# Altium footprint library CC26xx_7x7_Diff.PcbLib: 14 footprints
Each footprint in its own frame and in the unit in brackets; x right, y up, seen from the top. Pads: shape width x height; smd on the part's side, far side on the other; paste and mask are expansions set on the pad; w line width, h text height; cw(c..) or ccw(c..) is an arc to the next point about the centre after c.
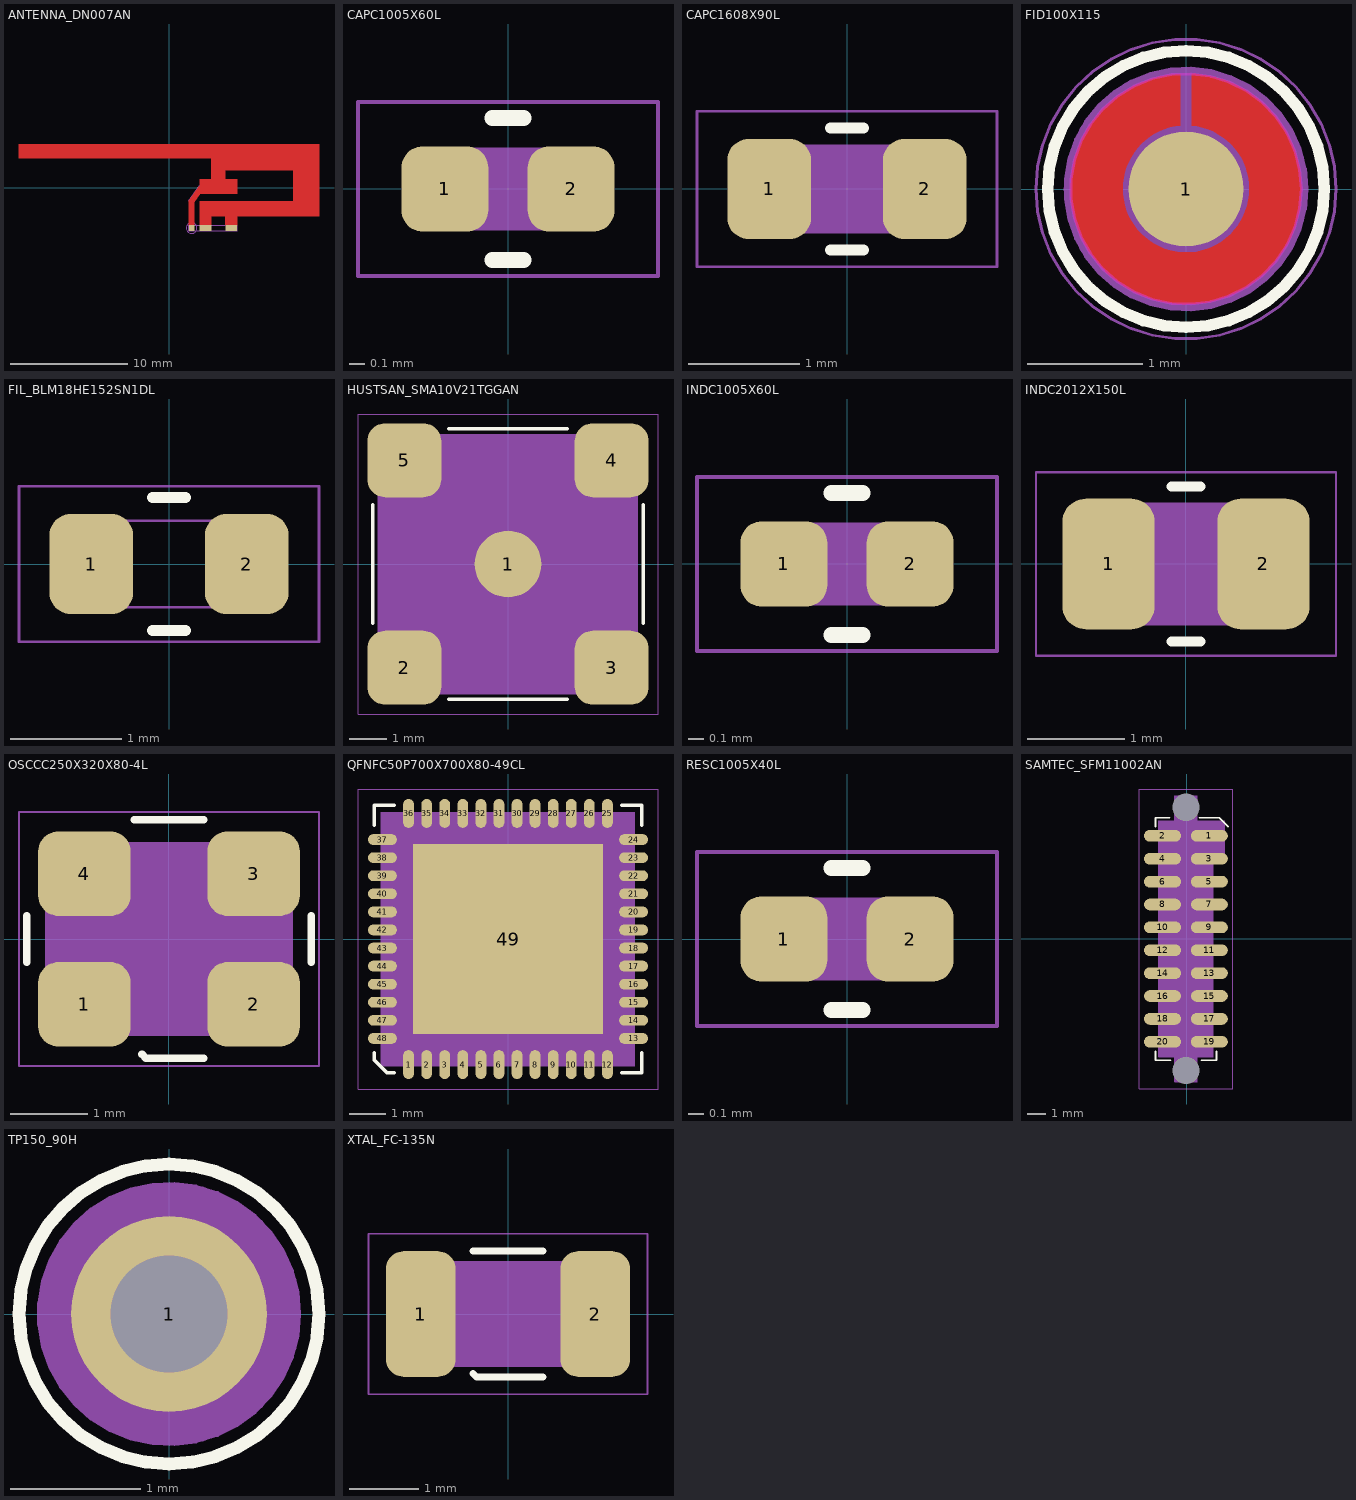
[diagram p0: the footprints below, top view; thin cyan lines are the x and y axes]

## ANTENNA_DN007AN [mm] "ANTENNA_DN007AN"
pads (3):
  rect 0.46x0.5 smd: 1(1.93,-3.455)
  rect 1x0.5 smd: 2(3.11,-3.455) 3(5.31,-3.455)
Top Layer:
  region: 12.79,-2.465 12.79,3.705 -12.79,3.705 -12.79,2.495 3.61,2.495 3.61,0.695 2.61,0.695 2.61,0.193 1.7,-1.127 1.7,-3.205 2.16,-3.205 2.16,-1.27 2.681,-0.515 5.81,-0.515 5.81,0.695 4.81,0.695 4.81,1.495 10.61,1.495 10.61,-1.175 2.61,-1.175 2.61,-3.205 3.61,-3.205 3.61,-2.465 4.81,-2.465 4.81,-3.205 5.81,-3.205 5.81,-2.465
Mechanical 11:
  text "1" at 1.85,-3.455 h0.2
  text "3" at 5.23,-3.455 h0.2
  text "2" at 3.03,-3.455 h0.2
Mechanical 14:
  circle w0.025: c1.93,-3.455 r0.457
Mechanical 16:
  lines w0.025: 1.7,-1.127 2.61,0.193 ; 1.7,-3.705 5.81,-3.705 5.81,-3.205 1.7,-3.205 1.7,-3.705
Mechanical 17:
  text "MICHAL BLACHUCKI" at -8.715,-1.948 h0.2
Mechanical 18:
  text "ROBERT MITAL" at -8.715,-1.548 h0.2
Mechanical 19:
  text "2011-09-19" at -8.715,-2.298 h0.2

## CAPC1005X60L [mm] "CAPC1005X60L"
pads (2):
  rrect50% 0.55x0.54 smd: 1(-0.4,0) 2(0.4,0)
Top Overlay:
  lines w0.1: -0.1,-0.45 0.1,-0.45 ; -0.1,0.45 0.1,0.45
Mechanical 11:
  text "2" at 0.48,-0.06 h0.2
  text "1" at -0.31,-0.05 h0.2
Mechanical 13:
  lines w0.025: -0.25,-0.25 -0.25,0.25 ; -0.25,-0.25 -0.2,-0.25 0.2,-0.25 0.25,-0.25 ; -0.25,-0.25 -0.5,-0.25 -0.5,0.25 -0.25,0.25 ; -0.25,0.25 -0.2,0.25 0.2,0.25 0.25,0.25 ; 0.25,-0.25 0.25,0.25 ; 0.25,-0.25 0.5,-0.25 0.5,0.25 0.25,0.25
Mechanical 14:
  lines w0.025: -0.95,-0.55 -0.95,0.55 0.95,0.55 0.95,-0.55 -0.95,-0.55
Mechanical 15:
  region: -0.5,0.25 -0.5,-0.25 0.5,-0.25 0.5,0.25
Mechanical 16:
  text "COPYRIGHTS 2011 @ DYNAMIC PRECISION" at -2.975,0.65 h0.2
Mechanical 17:
  text "ROBERT GABRYSIAK" at -1.3,0.21 h0.2
Mechanical 18:
  text "JOHAN ANDERSSON" at -1.3,-0.04 h0.2
Mechanical 19:
  text "2009-09-17" at -0.83,-0.35 h0.2

## CAPC1608X90L [mm] "CAPC1608X90L"
pads (2):
  rrect50% 0.752x0.9 smd: 1(-0.7,0) 2(0.7,0)
Top Overlay:
  lines w0.1: -0.15,-0.55 0.15,-0.55 ; -0.15,0.55 0.15,0.55
Mechanical 11:
  text "2" at 0.7,-0.08 h0.2
  text "1" at -0.7,-0.08 h0.2
Mechanical 13:
  lines w0.025: -0.8,-0.4 -0.8,0.4 -0.45,0.4 -0.45,-0.4 -0.8,-0.4 ; -0.45,-0.39 0.45,-0.39 0.45,0.39 -0.45,0.39 -0.45,-0.39 ; 0.45,-0.4 0.45,0.4 0.8,0.4 0.8,-0.4 0.45,-0.4
Mechanical 14:
  lines w0.025: -1.35,-0.7 -1.35,0.7 1.35,0.7 1.35,-0.7 -1.35,-0.7
Mechanical 15:
  region: 0.8,-0.4 0.45,-0.4 0.45,-0.39 -0.45,-0.39 -0.45,-0.4 -0.8,-0.4 -0.8,0.4 -0.45,0.4 -0.45,0.39 0.45,0.39 0.45,0.4 0.8,0.4
Mechanical 16:
  text "COPYRIGHTS 2011 @ DYNAMIC PRECISION" at -2.975,0.8 h0.2
Mechanical 17:
  text "ROBERT GABRYSIAK" at -1.4,0.26 h0.2
Mechanical 18:
  text "JOHAN ANDERSSON" at -1.36,-0.02 h0.2
Mechanical 19:
  text "2009-09-17" at -0.84,-0.33 h0.2

## FID100X115 [mm] "FID100X115"
pads (1):
  round 1 smd: 1(0,0)
Top Layer:
  region: 0.05,0.55 0.098,0.543 0.144,0.532 0.19,0.518 0.235,0.499 0.277,0.477 0.317,0.451 0.355,0.421 0.391,0.389 0.423,0.353 0.452,0.315 0.478,0.274 0.5,0.231 0.518,0.187 0.532,0.141 0.542,0.094 0.548,0.046 0.55,-0.002 0.548,-0.05 0.541,-0.098 0.53,-0.144 0.516,-0.19 0.497,-0.235 0.475,-0.277 0.449,-0.317 0.419,-0.355 0.387,-0.391 0.351,-0.423 0.313,-0.452 0.272,-0.478 0.229,-0.5 0.185,-0.518 0.139,-0.532 0.092,-0.542 0.044,-0.548 0,-0.55 -0.048,-0.548 -0.096,-0.541 -0.143,-0.531 -0.188,-0.516 -0.233,-0.498 -0.275,-0.476 -0.316,-0.45 -0.354,-0.42 -0.389,-0.388 -0.422,-0.352 -0.451,-0.314 -0.477,-0.274 -0.499,-0.231 -0.517,-0.187 -0.531,-0.141 -0.542,-0.094 -0.548,-0.046 -0.55,0.002 -0.548,0.05 -0.541,0.098 -0.531,0.145 -0.516,0.19 -0.498,0.235 -0.476,0.277 -0.45,0.318 -0.42,0.356 -0.388,0.391 -0.352,0.424 -0.314,0.453 -0.274,0.479 -0.231,0.501 -0.187,0.519 -0.141,0.533 -0.094,0.544 -0.05,0.55 -0.05,1 -0.05,1.001 -0.137,0.992 -0.223,0.977 -0.307,0.953 -0.389,0.923 -0.468,0.885 -0.543,0.841 -0.614,0.791 -0.681,0.734 -0.742,0.672 -0.798,0.604 -0.847,0.533 -0.89,0.457 -0.927,0.377 -0.956,0.295 -0.978,0.21 -0.992,0.124 -0.999,0.037 -0.999,-0.05 -0.99,-0.137 -0.975,-0.223 -0.951,-0.307 -0.921,-0.389 -0.883,-0.468 -0.839,-0.543 -0.789,-0.614 -0.732,-0.681 -0.67,-0.742 -0.602,-0.798 -0.531,-0.847 -0.455,-0.89 -0.375,-0.927 -0.293,-0.956 -0.208,-0.978 -0.122,-0.992 -0.035,-0.999 0,-1 0.087,-0.996 0.174,-0.985 0.259,-0.966 0.342,-0.939 0.423,-0.906 0.5,-0.865 0.574,-0.818 0.643,-0.765 0.708,-0.706 0.766,-0.642 0.82,-0.572 0.866,-0.499 0.907,-0.421 0.94,-0.34 0.966,-0.257 0.985,-0.172 0.996,-0.085 1,0.002 0.996,0.089 0.985,0.176 0.966,0.261 0.939,0.344 0.906,0.425 0.865,0.502 0.818,0.576 0.765,0.645 0.706,0.71 0.642,0.768 0.572,0.822 0.499,0.868 0.421,0.909 0.34,0.942 0.257,0.968 0.172,0.987 0.085,0.998 0.05,1
Top Overlay:
  lines w0.1: 0,-1.2 ccw(c0,0) 0,1.2 ccw(c0,0) 0,-1.2
Top Paste:
  text "FIDMARK" at -1.2,0.8 h0.46
Mechanical 11:
  text "1" at -0.08,0 h0.2
Mechanical 13:
  circle w0.025: c0,0 r1.05
Mechanical 14:
  circle w0.025: c0,0 r1.301
Mechanical 15:
  pour cut-out: 1.059,0 1.023,0.274 0.917,0.53 0.749,0.749 0.53,0.917 0.274,1.023 0,1.059 -0.274,1.023 -0.53,0.917 -0.749,0.749 -0.917,0.53 -1.023,0.274 -1.059,0 -1.023,-0.274 -0.917,-0.53 -0.749,-0.749 -0.53,-0.917 -0.274,-1.023 0,-1.059 0.274,-1.023 0.53,-0.917 0.749,-0.749 0.917,-0.53 1.023,-0.274
Mechanical 16:
  text "COPYRIGHTS 2011 @ DYNAMIC PRECISION" at -2.975,1.401 h0.46
Multi-Layer keep-out:
  circle w0.025: c0,0 r1
Mechanical 17:
  text "JOANNA KURPIEWSKA" at -1.517,-0.932 h0.2
Mechanical 18:
  text "ROBERT MITAL" at -1.517,-0.532 h0.2
Mechanical 19:
  text "2010-01-08" at -1.517,-1.282 h0.2

## FIL_BLM18HE152SN1DL [mm] "FIL_BLM18HE152SN1DL"
pads (2):
  rrect50% 0.752x0.9 smd: 1(-0.7,0) 2(0.7,0)
Top Overlay:
  lines w0.1: -0.15,-0.6 0.15,-0.6 ; -0.15,0.6 0.15,0.6
Mechanical 11:
  text "2" at 0.62,0 h0.2
  text "1" at -0.78,0 h0.2
Mechanical 13:
  lines w0.025: -0.8,-0.4 -0.45,-0.4 -0.45,0.4 -0.8,0.4 -0.8,-0.4 ; -0.45,-0.39 -0.45,0.39 0.45,0.39 0.45,-0.39 -0.45,-0.39 ; 0.45,-0.4 0.8,-0.4 0.8,0.4 0.45,0.4 0.45,-0.4
Mechanical 14:
  lines w0.025: -1.351,-0.7 1.351,-0.7 1.351,0.7 -1.351,0.7 -1.351,-0.7
Mechanical 15:
  lines w0.025: -0.8,-0.4 -0.8,0.4 -0.45,0.4 -0.45,-0.4 -0.8,-0.4 ; -0.45,-0.39 -0.45,0.39 0.45,0.39 0.45,-0.39 -0.45,-0.39 ; 0.45,-0.4 0.45,0.4 0.8,0.4 0.8,-0.4 0.45,-0.4
Mechanical 16:
  text "COPYRIGHTS 2011 @ DYNAMIC-PRECISION" at -2.95,0.899 h0.2
Mechanical 17:
  text "ROBERT GABRYSIAK" at -1.4,0.26 h0.2
Mechanical 18:
  text "JOHAN ANDERSSON" at -1.36,-0.02 h0.2
Mechanical 19:
  text "2009-09-17" at -0.84,-0.33 h0.2

## HUSTSAN_SMA10V21TGGAN [mm] "HUSTSAN_SMA10V21TGGAN"
pads (5):
  round 1.801 smd: 1(0,0)
  rrect48% 2x2 smd: 2(-2.8,-2.8) 3(2.8,-2.8) 4(2.8,2.8) 5(-2.8,2.8)
Top Overlay:
  lines w0.1: -3.65,-1.6 -3.65,1.6 ; -1.6,-3.65 1.6,-3.65 ; -1.6,3.65 1.6,3.65 ; 3.65,-1.6 3.65,1.6
  text ".Designator" at 2.45,-5 h1
Mechanical 11:
  text "1" at -0.08,0 h0.2
  text "2" at -2.88,-2.8 h0.2
  text "3" at 2.72,-2.8 h0.2
  text "5" at -2.88,2.8 h0.2
  text "4" at 2.72,2.8 h0.2
Mechanical 13:
  circle w0.025: c0,0 r2.744
  circle w0.025: c0,0 r2.4
  circle w0.025: c0,0 r2.3
  lines w0.025: -3.5,-3.5 -3.5,3.5 3.5,3.5 3.5,-3.5 -3.5,-3.5
Mechanical 14:
  circle w0.025: c0,0 r0.978
  lines w0.025: -4.05,-4.05 -4.05,4.05 4.05,4.05 4.05,-4.05 -4.05,-4.05
Mechanical 15:
  pour cut-out: 2.752,0 2.719,0.431 2.618,0.851 2.452,1.25 2.227,1.618 1.946,1.946 1.618,2.227 1.25,2.452 0.851,2.618 0.431,2.719 0,2.752 -0.431,2.719 -0.851,2.618 -1.25,2.452 -1.618,2.227 -1.946,1.946 -2.227,1.618 -2.452,1.25 -2.618,0.851 -2.719,0.431 -2.752,0 -2.719,-0.431 -2.618,-0.851 -2.452,-1.25 -2.227,-1.618 -1.946,-1.946 -1.618,-2.227 -1.25,-2.452 -0.851,-2.618 -0.431,-2.719 0,-2.752 0.431,-2.719 0.851,-2.618 1.25,-2.452 1.618,-2.227 1.946,-1.946 2.227,-1.618 2.452,-1.25 2.618,-0.851 2.719,-0.431
  region: -3.5,3.5 -3.5,-3.5 3.5,-3.5 3.5,3.5
Mechanical 16:
  text "COPYRIGHTS 2011 @ DYNAMIC PRECISION" at -3,4.15 h0.2
Mechanical 17:
  text "MICHAL BLACHUCKI" at -0.635,-0.146 h0.2
Mechanical 18:
  text "ROBERT MITAL" at -0.635,0.254 h0.2
Mechanical 19:
  text "2011-07-18" at -0.635,-0.496 h0.2

## INDC1005X60L [mm] "INDC1005X60L"
pads (2):
  rrect50% 0.55x0.54 smd: 1(-0.4,0) 2(0.4,0)
Top Overlay:
  lines w0.1: -0.1,-0.45 0.1,-0.45 ; -0.1,0.45 0.1,0.45
Mechanical 11:
  text "2" at 0.4,0.02 h0.2
  text "1" at -0.39,0.03 h0.2
Mechanical 13:
  lines w0.025: -0.25,-0.25 -0.25,0.25 ; -0.25,-0.25 -0.2,-0.25 0.2,-0.25 0.25,-0.25 ; -0.25,-0.25 -0.5,-0.25 -0.5,0.25 -0.25,0.25 ; -0.25,0.25 -0.2,0.25 0.2,0.25 0.25,0.25 ; 0.25,-0.25 0.25,0.25 ; 0.25,-0.25 0.5,-0.25 0.5,0.25 0.25,0.25
Mechanical 14:
  lines w0.025: -0.95,-0.55 -0.95,0.55 0.95,0.55 0.95,-0.55 -0.95,-0.55
Mechanical 15:
  region: -0.5,0.25 -0.5,-0.25 0.5,-0.25 0.5,0.25
Mechanical 16:
  text "COPYRIGHTS 2011 @ DYNAMIC PRECISION" at -2.975,0.65 h0.2
Mechanical 17:
  text "ROBERT GABRYSIAK" at -1.3,0.21 h0.2
Mechanical 18:
  text "JOHAN ANDERSSON" at -1.3,-0.04 h0.2
Mechanical 19:
  text "2009-09-17" at -0.83,-0.35 h0.2

## INDC2012X150L [mm] "INDC2012X150L"
pads (2):
  rrect50% 0.954x1.35 smd: 1(-0.8,0) 2(0.8,0)
Top Overlay:
  lines w0.1: -0.15,-0.8 0.15,-0.8 ; -0.15,0.8 0.15,0.8
Mechanical 11:
  text "1" at -0.8,-0.08 h0.2
  text "2" at 0.8,-0.08 h0.2
Mechanical 13:
  lines w0.025: -0.5,-0.625 -0.5,0.625 ; 0.5,-0.625 0.5,0.625 ; -1,-0.625 -0.6,-0.625 0.6,-0.625 1,-0.625 1,0.625 0.6,0.625 -0.6,0.625 -1,0.625 -1,-0.625
Mechanical 14:
  lines w0.025: -1.55,-0.95 1.55,-0.95 1.55,0.95 -1.55,0.95 -1.55,-0.95
Mechanical 15:
  region: -1,0.625 -1,-0.625 1,-0.625 1,0.625
Mechanical 16:
  text "COPYRIGHTS 2011 @ DYNAMIC PRECISION" at -2.975,1.05 h0.2
Mechanical 17:
  text "ROBERT GABRYSIAK" at -1.39,0.35 h0.2
Mechanical 18:
  text "JOHAN ANDERSSON" at -1.29,0.03 h0.2
Mechanical 19:
  text "2009-09-18" at -1.41,-0.8 h0.2

## OSCCC250X320X80-4L [mm] "OSCCC250X320X80-4L"
pads (4):
  rrect47% 1.2x1.1 smd: 1(-1.1,-0.85) 2(1.1,-0.85) 3(1.1,0.85) 4(-1.1,0.85)
Top Overlay:
  lines w0.1: -1.85,-0.3 -1.85,0.3 ; -0.45,1.55 0.45,1.55 ; -0.35,-1.5 -0.3,-1.55 0.45,-1.55 ; 1.85,-0.3 1.85,0.3
  text ".Designator" at -0.2,-3.3 h1
Mechanical 11:
  text "2" at 1.1,-0.93 h0.2
  text "4" at -1.1,0.77 h0.2
  text "1" at -1.1,-0.93 h0.2
  text "3" at 1.1,0.77 h0.2
Mechanical 13:
  circle w0.025: c-1.05,-0.7 r0.18
  lines w0.025: -1.6,-0.98 cw(c-1.6,-1.25) -1.33,-1.25 ; -1.6,-0.98 cw(c-1.6,-1.25) -1.33,-1.25 ; -1.6,-0.98 cw(c-1.6,-1.25) -1.33,-1.25 ; -1.6,-0.98 -1.6,0.98 ; -1.6,-0.98 -1.6,0.98 ; -1.6,-0.98 -1.6,0.98 ; -1.6,0.98 ccw(c-1.6,1.25) -1.33,1.25 ; -1.6,0.98 ccw(c-1.6,1.25) -1.33,1.25 ; -1.6,0.98 ccw(c-1.6,1.25) -1.33,1.25 ; -1.41,-0.96 ccw(c-1.31,-0.96) -1.31,-1.06 ; -1.41,-0.96 ccw(c-1.31,-0.96) -1.31,-1.06 ; -1.41,-0.96 ccw(c-1.31,-0.96) -1.31,-1.06 ; -1.41,-0.96 -1.41,0.96 ; -1.41,-0.96 -1.41,0.96 ; -1.41,-0.96 -1.41,0.96 ; -1.41,0.96 cw(c-1.31,0.96) -1.31,1.06 ; -1.41,0.96 cw(c-1.31,0.96) -1.31,1.06 ; -1.41,0.96 cw(c-1.31,0.96) -1.31,1.06 ; -1.33,-1.25 1.33,-1.25 ; -1.33,-1.25 1.33,-1.25 ; -1.33,-1.25 1.33,-1.25 ; -1.33,1.25 1.33,1.25 ; -1.33,1.25 1.33,1.25 ; -1.33,1.25 1.33,1.25 ; -1.31,-1.06 1.31,-1.06 ; -1.31,-1.06 1.31,-1.06 ; -1.31,-1.06 1.31,-1.06 ; -1.31,1.06 1.31,1.06 ; -1.31,1.06 1.31,1.06 ; -1.31,1.06 1.31,1.06 ; 1.31,-1.06 ccw(c1.31,-0.96) 1.41,-0.96 ; 1.31,-1.06 ccw(c1.31,-0.96) 1.41,-0.96 ; 1.31,-1.06 ccw(c1.31,-0.96) 1.41,-0.96 ; 1.31,1.06 cw(c1.31,0.96) 1.41,0.96 ; 1.31,1.06 cw(c1.31,0.96) 1.41,0.96 ; 1.31,1.06 cw(c1.31,0.96) 1.41,0.96 ; 1.33,-1.25 cw(c1.6,-1.25) 1.6,-0.98 ; 1.33,-1.25 cw(c1.6,-1.25) 1.6,-0.98 ; 1.33,-1.25 cw(c1.6,-1.25) 1.6,-0.98 ; 1.33,1.25 ccw(c1.6,1.25) 1.6,0.98 ; 1.33,1.25 ccw(c1.6,1.25) 1.6,0.98 ; 1.33,1.25 ccw(c1.6,1.25) 1.6,0.98 ; 1.41,-0.96 1.41,0.96 ; 1.41,-0.96 1.41,0.96 ; 1.41,-0.96 1.41,0.96 ; 1.6,-0.98 1.6,0.98 ; 1.6,-0.98 1.6,0.98 ; 1.6,-0.98 1.6,0.98
Mechanical 14:
  circle w0.025: c-1.1,-0.85 r0.51
  lines w0.025: -1.95,-1.65 -1.95,1.65 1.95,1.65 1.95,-1.65 -1.95,-1.65
Mechanical 15:
  region: 1.33,-1.25 -1.33,-1.25 -1.331,-1.226 -1.334,-1.203 -1.339,-1.18 -1.346,-1.158 -1.355,-1.136 -1.366,-1.115 -1.379,-1.095 -1.393,-1.076 -1.409,-1.059 -1.426,-1.043 -1.445,-1.029 -1.465,-1.016 -1.486,-1.005 -1.508,-0.996 -1.53,-0.989 -1.553,-0.984 -1.576,-0.981 -1.6,-0.98 -1.6,0.98 -1.576,0.981 -1.553,0.984 -1.53,0.989 -1.508,0.996 -1.486,1.005 -1.465,1.016 -1.445,1.029 -1.426,1.043 -1.409,1.059 -1.393,1.076 -1.379,1.095 -1.366,1.115 -1.355,1.136 -1.346,1.158 -1.339,1.18 -1.334,1.203 -1.331,1.226 -1.33,1.25 1.33,1.25 1.331,1.226 1.334,1.203 1.339,1.18 1.346,1.158 1.355,1.136 1.366,1.115 1.379,1.095 1.393,1.076 1.409,1.059 1.426,1.043 1.445,1.029 1.465,1.016 1.486,1.005 1.508,0.996 1.53,0.989 1.553,0.984 1.576,0.981 1.6,0.98 1.6,-0.98 1.576,-0.981 1.553,-0.984 1.53,-0.989 1.508,-0.996 1.486,-1.005 1.465,-1.016 1.445,-1.029 1.426,-1.043 1.409,-1.059 1.393,-1.076 1.379,-1.095 1.366,-1.115 1.355,-1.136 1.346,-1.158 1.339,-1.18 1.334,-1.203 1.331,-1.226
Mechanical 16:
  text "COPYRIGHTS 2011 @ DYNAMIC PRECISION" at -2.975,1.75 h0.2
Mechanical 17:
  text "JOANNA KURPIEWSKA" at -2,-1.35 h0.2
Mechanical 18:
  text "ROBERT MITAL" at -2,-0.95 h0.2
Mechanical 19:
  text "2010-03-02" at -2,-1.7 h0.2

## QFNFC50P700X700X80-49CL [mm] "QFNFC50P700X700X80-49CL"
pads (49):
  oval 0.3x0.8 smd: 1(-2.75,-3.475) 2(-2.25,-3.475) 3(-1.75,-3.475) 4(-1.25,-3.475) 5(-0.75,-3.475) 6(-0.25,-3.475) 7(0.25,-3.475) 8(0.75,-3.475) 9(1.25,-3.475) 10(1.75,-3.475) 11(2.25,-3.475) 12(2.75,-3.475) 25(2.75,3.475) 26(2.25,3.475) 27(1.75,3.475) 28(1.25,3.475) 29(0.75,3.475) 30(0.25,3.475) 31(-0.25,3.475) 32(-0.75,3.475) 33(-1.25,3.475) 34(-1.75,3.475) 35(-2.25,3.475) 36(-2.75,3.475)
  oval 0.8x0.3 smd: 13(3.475,-2.75) 14(3.475,-2.25) 15(3.475,-1.75) 16(3.475,-1.25) 17(3.475,-0.75) 18(3.475,-0.25) 19(3.475,0.25) 20(3.475,0.75) 21(3.475,1.25) 22(3.475,1.75) 23(3.475,2.25) 24(3.475,2.75) 37(-3.475,2.75) 38(-3.475,2.25) 39(-3.475,1.75) 40(-3.475,1.25) 41(-3.475,0.75) 42(-3.475,0.25) 43(-3.475,-0.25) 44(-3.475,-0.75) 45(-3.475,-1.25) 46(-3.475,-1.75) 47(-3.475,-2.25) 48(-3.475,-2.75)
  rect 5.25x5.25 smd: 49(0,0)
Top Overlay:
  lines w0.1: -3.7,-3.15 -3.7,-3.35 -3.35,-3.7 -3.15,-3.7 ; -3.7,3.15 -3.7,3.7 -3.15,3.7 ; 3.15,-3.7 3.7,-3.7 3.7,-3.15 ; 3.15,3.7 3.7,3.7 3.7,3.15
Mechanical 11:
  text "6" at -0.04,-3.475 h0.2
  text "7" at 0.46,-3.475 h0.2
  text "16" at 3.795,-1.1 h0.2
  text "15" at 3.795,-1.6 h0.2
  text "14" at 3.795,-2.1 h0.2
  text "10" at 2.22,-3.475 h0.2
  text "33" at -0.78,3.275 h0.2
  text "25" at 3.22,3.275 h0.2
  text "24" at 3.795,2.9 h0.2
  text "35" at -1.78,3.275 h0.2
  text "46" at -2.955,-1.6 h0.2
  text "4" at -1.04,-3.475 h0.2
  text "11" at 2.72,-3.475 h0.2
  text "12" at 3.22,-3.475 h0.2
  text "17" at 3.795,-0.6 h0.2
  text "18" at 3.795,-0.1 h0.2
  text "5" at -0.54,-3.475 h0.2
  text "19" at 3.795,0.4 h0.2
  text "30" at 0.72,3.275 h0.2
  text "31" at 0.22,3.275 h0.2
  text "32" at -0.28,3.275 h0.2
  text "39" at -2.955,1.9 h0.2
  text "40" at -2.955,1.4 h0.2
  text "41" at -2.955,0.9 h0.2
  text "42" at -2.955,0.4 h0.2
  text "43" at -2.955,-0.1 h0.2
  text "9" at 1.46,-3.475 h0.2
  text "21" at 3.795,1.4 h0.2
  text "20" at 3.795,0.9 h0.2
  text "1" at -2.54,-3.475 h0.2
  text "2" at -2.04,-3.475 h0.2
  text "29" at 1.22,3.275 h0.2
  text "27" at 2.22,3.275 h0.2
  text "28" at 1.72,3.275 h0.2
  text "26" at 2.72,3.275 h0.2
  text "23" at 3.795,2.4 h0.2
  text "38" at -2.955,2.4 h0.2
  text "8" at 0.96,-3.475 h0.2
  text "3" at -1.54,-3.475 h0.2
  text "47" at -2.955,-2.1 h0.2
  text "44" at -2.955,-0.6 h0.2
  text "34" at -1.28,3.275 h0.2
  text "22" at 3.795,1.9 h0.2
  text "13" at 3.795,-2.6 h0.2
  text "49" at 0.32,0 h0.2
  text "48" at -2.955,-2.6 h0.2
  text "45" at -2.955,-1.1 h0.2
  text "36" at -2.28,3.275 h0.2
  text "37" at -2.955,2.9 h0.2
Mechanical 13:
  circle w0.025: c-2.75,-2.825 r0.25
  lines w0.025: -3.5,-3.5 3.5,-3.5 3.5,3.5 -3.5,3.5 -3.5,-3.5
Mechanical 14:
  circle w0.025: c-2.75,-3.475 r0.15
  lines w0.025: -4.15,-4.15 4.15,-4.15 4.15,4.15 -4.15,4.15 -4.15,-4.15
Mechanical 15:
  region: -3.5,3.5 -3.5,-3.5 3.5,-3.5 3.5,3.5
Mechanical 16:
  text "COPYRIGHTS 2011 @ DYNAMIC PRECISION" at -2.975,4.25 h0.2
Mechanical 17:
  text "GRZEGORZ OLSZEWSKI" at -3.3,-3.025 h0.2
Mechanical 18:
  text "ROBERT MITAL" at -3.3,-2.625 h0.2
Mechanical 19:
  text "2012-09-10" at -3.3,-3.375 h0.2

## RESC1005X40L [mm] "RESC1005X40L"
pads (2):
  rrect50% 0.55x0.54 smd: 1(-0.4,0) 2(0.4,0)
Top Overlay:
  lines w0.1: -0.1,-0.45 0.1,-0.45 ; -0.1,0.45 0.1,0.45
Mechanical 11:
  text "2" at 0.4,-0.14 h0.2
  text "1" at -0.39,-0.13 h0.2
Mechanical 13:
  lines w0.025: -0.25,-0.25 -0.25,0.25 ; -0.25,-0.25 -0.2,-0.25 0.2,-0.25 0.25,-0.25 ; -0.25,-0.25 -0.5,-0.25 -0.5,0.25 -0.25,0.25 ; -0.25,0.25 -0.2,0.25 0.2,0.25 0.25,0.25 ; 0.25,-0.25 0.25,0.25 ; 0.25,-0.25 0.5,-0.25 0.5,0.25 0.25,0.25
Mechanical 14:
  lines w0.025: -0.95,-0.55 -0.95,0.55 0.95,0.55 0.95,-0.55 -0.95,-0.55
Mechanical 15:
  region: -0.5,0.25 -0.5,-0.25 0.5,-0.25 0.5,0.25
Mechanical 16:
  text "COPYRIGHTS 2011 @ DYNAMIC PRECISION" at -2.975,0.65 h0.2
Mechanical 17:
  text "ROBERT GABRYSIAK" at -1.3,0.21 h0.2
Mechanical 18:
  text "JOHAN ANDERSSON" at -1.3,-0.04 h0.2
Mechanical 19:
  text "2009-09-17" at -0.83,-0.35 h0.2

## SAMTEC_SFM11002AN [mm] "SAMTEC_SFM11002AN"
pads (22):
  oval 2.05x0.65 smd: 1(1.27,5.715) 2(-1.334,5.715) 3(1.27,4.445) 4(-1.334,4.445) 5(1.27,3.175) 6(-1.334,3.175) 7(1.27,1.905) 8(-1.334,1.905) 9(1.27,0.635) 10(-1.334,0.635) 11(1.27,-0.635) 12(-1.334,-0.635) 13(1.27,-1.905) 14(-1.334,-1.905) 15(1.27,-3.175) 16(-1.334,-3.175) 17(1.27,-4.445) 18(-1.334,-4.445) 19(1.27,-5.715) 20(-1.334,-5.715)
  round 0.099 / inner round 1.524 / far side round 0.099 hole 1.501: " "(-0.032,-7.303) " "(-0.032,7.303)
Top Overlay:
  lines w0.1: -1.73,-6.235 -1.73,-6.735 -0.88,-6.735 ; -1.73,6.215 -1.73,6.715 -0.93,6.715 ; 0.72,6.715 1.82,6.715 2.32,6.215 ; 0.82,-6.735 1.67,-6.735 1.67,-6.235
  text ".Designator" at -0.43,7.715 h1
Mechanical 11:
  text "19" at 1.492,-5.667 h0.2
  text "1" at 1.422,5.857 h0.2
  text "9" at 1.422,0.777 h0.2
  text "8" at -1.182,2.047 h0.2
  text "10" at -1.112,0.867 h0.2
  text "17" at 1.492,-4.397 h0.2
  text "6" at -1.182,3.317 h0.2
  text "11" at 1.492,-0.587 h0.2
  text "15" at 1.492,-3.127 h0.2
  text "3" at 1.422,4.587 h0.2
  text "12" at -1.112,-0.587 h0.2
  text "14" at -1.112,-1.857 h0.2
  text "2" at -1.182,5.857 h0.2
  text "4" at -1.182,4.587 h0.2
  text "13" at 1.492,-1.857 h0.2
  text "20" at -1.112,-5.667 h0.2
  text "18" at -1.112,-4.397 h0.2
  text "16" at -1.112,-3.127 h0.2
  text "7" at 1.422,2.047 h0.2
  text "5" at 1.422,3.317 h0.2
Mechanical 16:
  drawing of 832 lines, arcs and shapes, not listed
  text "COPYRIGHTS 2011 @ DYNAMIC PRECISION" at 2.945,-8.435 h0.2
Mechanical 17:
  text "GRZEGORZ OLSZEWSKI" at 2.42,7.865 h0.2
Mechanical 18:
  text "ROBERT GABRYSIAK" at 2.42,7.465 h0.2
Mechanical 19:
  text "2009-06-26" at 2.42,8.215 h0.2

## TP150_90H [mm] "TP150_90H"
pads (1):
  round 1.5 / inner round 1.524 / far side round 1.5 hole 0.9: 1(0,0)
Top Overlay:
  lines w0.1: -1.15,0 ccw(c0,0) 0,-1.15 ccw(c0,0) 1.15,0 ccw(c0,0) 0,1.15 ccw(c0,0) -1.15,0
  text ".Designator" at -5.7,-0.5 h1
Mechanical 11:
  text "1" at -0.08,0 h0.2
Mechanical 13:
  circle w0.025: c0,0 r1.001
Mechanical 14:
  circle w0.025: c0,0 r1
Mechanical 15:
  pour cut-out: 1.009,0 0.974,0.261 0.873,0.504 0.713,0.713 0.504,0.873 0.261,0.974 0,1.009 -0.261,0.974 -0.504,0.873 -0.713,0.713 -0.873,0.504 -0.974,0.261 -1.009,0 -0.974,-0.261 -0.873,-0.504 -0.713,-0.713 -0.504,-0.873 -0.261,-0.974 0,-1.009 0.261,-0.974 0.504,-0.873 0.713,-0.713 0.873,-0.504 0.974,-0.261
Mechanical 16:
  text "COPYRIGHTS 2011 @ DYNAMIC PRECISION" at -3,1.35 h0.2
Mechanical 17:
  text "GRZEGORZ OLSZEWSKI" at -1.9,-1.7 h0.2
Mechanical 18:
  text "ROBERT GABRYSIAK" at -1.9,-1.3 h0.2
Mechanical 19:
  text "2010-03-19" at -1.9,-2.05 h0.2

## XTAL_FC-135N [mm] "XTAL_FC-135N"
pads (2):
  rrect50% 1x1.8 smd: 1(-1.25,0) 2(1.25,0)
Top Overlay:
  lines w0.1: -0.5,-0.85 -0.45,-0.9 0.5,-0.9 ; -0.5,0.9 0.5,0.9
Mechanical 11:
  text "2" at 1.25,-0.08 h0.2
  text "1" at -1.25,-0.08 h0.2
Mechanical 13:
  lines w0.025: -1.6,-0.65 cw(c-1.6,-0.75) -1.5,-0.75 1.5,-0.75 cw(c1.6,-0.75) 1.6,-0.65 1.6,0.65 cw(c1.6,0.75) 1.5,0.75 -1.5,0.75 cw(c-1.6,0.75) -1.6,0.65 -1.6,-0.65
Mechanical 14:
  circle w0.025: c-1.25,0 r0.453
  lines w0.025: -2,-1.15 2,-1.15 2,1.15 -2,1.15 -2,-1.15
Mechanical 15:
  region: 1.6,-0.65 1.591,-0.65 1.583,-0.652 1.574,-0.653 1.566,-0.656 1.558,-0.659 1.55,-0.663 1.543,-0.668 1.536,-0.673 1.529,-0.679 1.523,-0.686 1.518,-0.693 1.513,-0.7 1.509,-0.708 1.506,-0.716 1.503,-0.724 1.502,-0.733 1.5,-0.741 1.5,-0.75 -1.5,-0.75 -1.5,-0.741 -1.502,-0.733 -1.503,-0.724 -1.506,-0.716 -1.509,-0.708 -1.513,-0.7 -1.518,-0.693 -1.523,-0.686 -1.529,-0.679 -1.536,-0.673 -1.543,-0.668 -1.55,-0.663 -1.558,-0.659 -1.566,-0.656 -1.574,-0.653 -1.583,-0.652 -1.591,-0.65 -1.6,-0.65 -1.6,0.65 -1.591,0.65 -1.583,0.652 -1.574,0.653 -1.566,0.656 -1.558,0.659 -1.55,0.663 -1.543,0.668 -1.536,0.673 -1.529,0.679 -1.523,0.686 -1.518,0.693 -1.513,0.7 -1.509,0.708 -1.506,0.716 -1.503,0.724 -1.502,0.733 -1.5,0.741 -1.5,0.75 1.5,0.75 1.5,0.741 1.502,0.733 1.503,0.724 1.506,0.716 1.509,0.708 1.513,0.7 1.518,0.693 1.523,0.686 1.529,0.679 1.536,0.673 1.543,0.668 1.55,0.663 1.558,0.659 1.566,0.656 1.574,0.653 1.583,0.652 1.591,0.65 1.6,0.65
Mechanical 17:
  text "JOANNA MINKIEWICZ" at -1.45,-0.3 h0.2
Mechanical 18:
  text "ROBERT MITAL" at -1.45,0.1 h0.2
Mechanical 19:
  text "2011-03-09" at -1.45,-0.65 h0.2